# Altium footprint library 模拟均衡器.PcbLib: 23 footprints (part 2 of 2)
Each footprint in its own frame and in the unit in brackets; x right, y up, seen from the top. Pads: shape width x height; smd on the part's side, far side on the other; paste and mask are expansions set on the pad; w line width, h text height; cw(c..) or ccw(c..) is an arc to the next point about the centre after c.
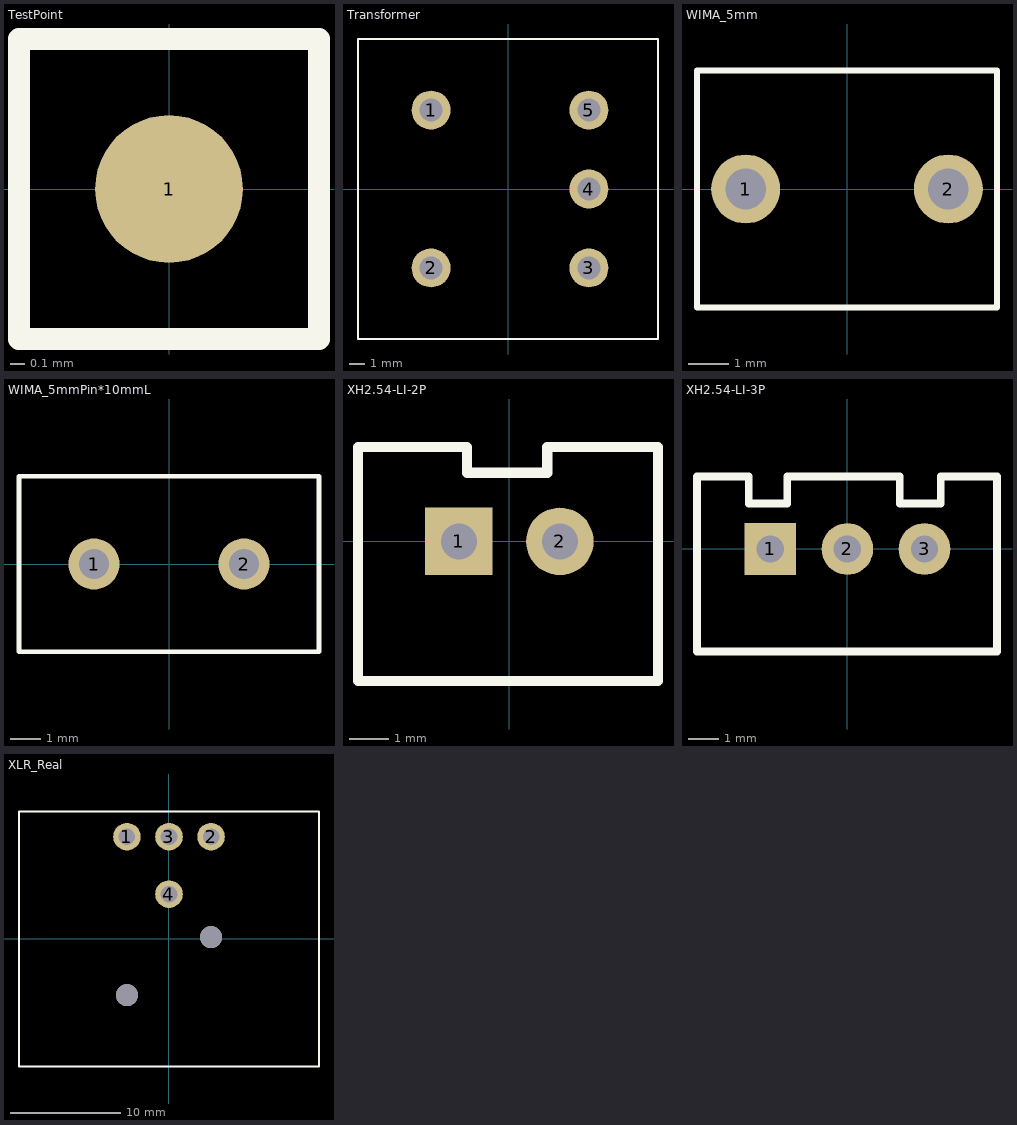
[diagram p1: the footprints below, top view; thin cyan lines are the x and y axes]

## TestPoint [mm]
pads (1):
  round 1 smd: 1(0,0)
Top Overlay:
  lines w0.152: -1.016,-1.016 -1.016,1.016 1.016,1.016 1.016,-1.016 0,-1.016 -1.016,-1.016

## Transformer [mm] "1:1隔离变压器"
pads (5):
  round 2.5 hole 1.5: 1(-4.953,5.08) 2(-4.953,-5.08) 3(5.207,-5.08) 4(5.207,0) 5(5.207,5.08)
Top Overlay:
  lines w0.152: -9.652,-9.652 -9.652,9.652 0,9.652 9.652,9.652 9.652,-9.652 -9.652,-9.652

## WIMA_5mm [mm] "WIMA_5mm*7.2*4.5*5.8(PIN*L*W*H)"
height 5.8
pads (2):
  round 1.7 hole 1: 1(-2.5,0) 2(2.5,0)
Top Overlay:
  lines w0.152: -3.7,-2.921 0,-2.921 3.7,-2.921 ; -3.7,-2.9 -3.7,0 -3.7,2.9 ; -3.7,2.921 0,2.921 3.7,2.921 ; 3.7,-2.9 3.7,0 3.7,2.9

## WIMA_5mmPin*10mmL [mm] "WIMA_5mm*10*4.5*5.8(PIN*L*W*H)"
pads (2):
  round 1.7 hole 1: 1(-2.5,0) 2(2.5,0)
Top Overlay:
  lines w0.152: -5,-2.921 0,-2.921 5,-2.921 ; -5,-2.879 -5,0.021 -5,2.921 0,2.921 5,2.921 5,0.021 5,-2.879

## XH2.54-LI-2P [mm] "接插件，2P"
pads (2):
  rect 1.7x1.7 hole 0.9: 1(-1.27,0)
  round 1.7 hole 0.9: 2(1.27,0)
Top Overlay:
  lines w0.254: -3.807,-3.505 -3.807,2.37 -1.067,2.37 -1.067,1.727 0.953,1.727 0.953,2.37 2.954,2.37 3.736,2.37 3.736,-3.505 -3.807,-3.505
3D body "XH2.54-2P.STEP": height 7.05, standoff -2.45, extent -3.77,-3.3 3.77,2.4

## XH2.54-LI-3P [mm] "接插件，3P"
pads (3):
  rect 1.7x1.7 hole 0.9: 1(-2.54,0)
  round 1.7 hole 0.9: 2(0,0) 3(2.54,0)
Top Overlay:
  lines w0.254: -4.953,-3.378 4.928,-3.378 4.928,2.388 3.073,2.388 3.073,1.5 1.727,1.5 1.727,2.388 -1.981,2.388 -1.981,1.5 -3.251,1.5 -3.251,2.388 -4.953,2.388 -4.953,-3.378
3D body "XH2.54-3P.STEP": height 7.03, standoff -2.47, extent -5.04,-3.3 5.04,2.4

## XLR_Real [mm] "XLR实体接口"
pads (6):
  round 2.5 hole 1.5: 1(-3.81,9.264) 2(3.81,9.264) 3(0,9.264) 4(0,4.064)
  round 2 hole 2 unplated paste+0: ""(-3.81,-5.086) ""(3.81,0.164)
Top Overlay:
  lines w0.152: -13.589,-11.557 -13.589,11.557 0,11.557 13.589,11.557 13.589,0 13.589,-11.557 -13.589,-11.557